# Altium schematic symbol library SW_1P1T_2.Schlib: 1 symbol
Pins are listed as number, name and electrical type; pins without a type are passive.

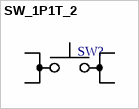
[diagram p0: symbol SW_1P1T_2]

## SW_1P1T_2
designator SW?  (value not drawn)
Switch, 1P1T, (1,2 -> 3,4)
pins: 1, 2, 3, 4